# Altium schematic symbol library MC68.SchLib: 1 symbol
Pins are listed as number, name and electrical type; pins without a type are passive.

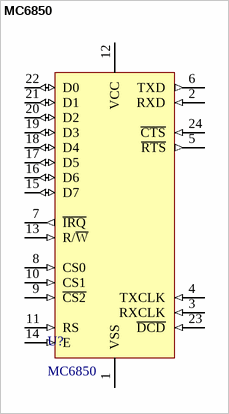
[diagram p0: symbol MC6850]

## MC6850
designator U?
Asynchronous Communications Interface Adapter (ACIA)
footprint PDIP24
pins: 1 VSS (power), 2 RXD (in), 3 RXCLK (in), 4 TXCLK (in), 5 ~{RTS} (out), 6 TXD (out), 7 ~{IRQ} (out), 8 CS0 (in), 9 ~{CS2} (in), 10 CS1 (in), 11 RS (in), 12 VCC (power), 13 R/~{W} (in), 14 E (in), 15 D7 (io), 16 D6 (io), 17 D5 (io), 18 D4 (io), 19 D3 (io), 20 D2 (io), 21 D1 (io), 22 D0 (io), 23 ~{DCD} (in), 24 ~{CTS} (in)